# EAGLE library part D-FF3 (library digital)
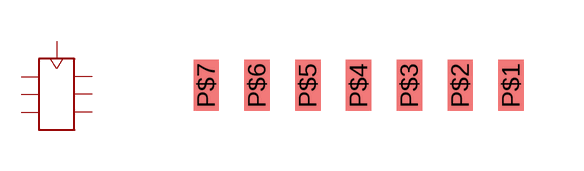
[diagram p0: symbol with the pads of 7PIN; footprint 7PIN]

Designator prefix -

## D-FF3  [7PIN]
P$1  CLK
P$2  D1
P$3  D2
P$4  D3
P$5  Q1
P$6  Q2
P$7  Q3

## Footprint 7PIN (pad centres in mm)
smd 0.635 x 1.27: P$1 3.81,0; P$2 2.54,0; P$3 1.27,0; P$4 0,0; P$5 -1.27,0; P$6 -2.54,0; P$7 -3.81,0